# Altium schematic symbol library Testpoint.SchLib: 2 symbols
Pins are listed as number, name and electrical type; pins without a type are passive.

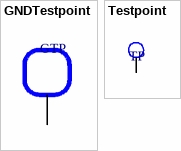
[diagram p0: symbols GNDTestpoint to Testpoint]

## GNDTestpoint
designator GTP, comment TP  (value not drawn)
footprint GNDTestpoint
pins: 7

## Testpoint
designator TP, comment TP  (value not drawn)  (no BOM)
footprint Testpoint
pins: 6 TP